# Altium footprint library 0039300060.PcbLib: 1 footprints
Each footprint in its own frame and in the unit in brackets; x right, y up, seen from the top. Pads: shape width x height; smd on the part's side, far side on the other; paste and mask are expansions set on the pad; w line width, h text height; cw(c..) or ccw(c..) is an arc to the next point about the centre after c.
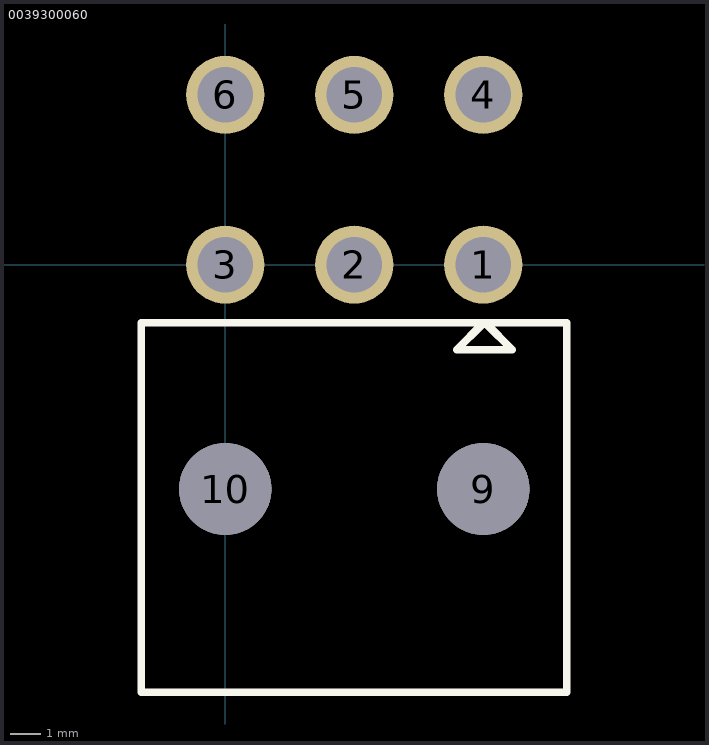
[diagram p0: the footprint, top view; thin cyan lines are the x and y axes]

## 0039300060 [mil] "Molex Minifit 6 Pin"
pads (8):
  round 100 hole 71: 1(330,0) 2(165,0) 3(0,0) 4(330,217) 5(165,217) 6(0,217)
  round 118 hole 118 unplated: 9(330,-287) 10(-0.02,-287)
Top Overlay:
  lines w10: -107.52,-546.84 436.3,-546.84 ; -107.52,-546.81 -107.52,-74.37 436.83,-74.37 436.83,-546.81 ; 329,-75 329,-76 296,-109 367,-109 334,-76
3D body "039300060.stp": height 448.82, standoff -141.73, extent -114.17,-551.18 444.89,233.66
3D body: height 0, standoff 0, extent -107.54,-546.86 436.85,-74.35
3D body: height 0, standoff 0, extent 295.95,-109.02 367.02,-74.98